# Altium footprint library CONN-DDR4-SODIMM.PcbLib: 1 footprints
Each footprint in its own frame and in the unit in brackets; x right, y up, seen from the top. Pads: shape width x height; smd on the part's side, far side on the other; paste and mask are expansions set on the pad; w line width, h text height; cw(c..) or ccw(c..) is an arc to the next point about the centre after c.
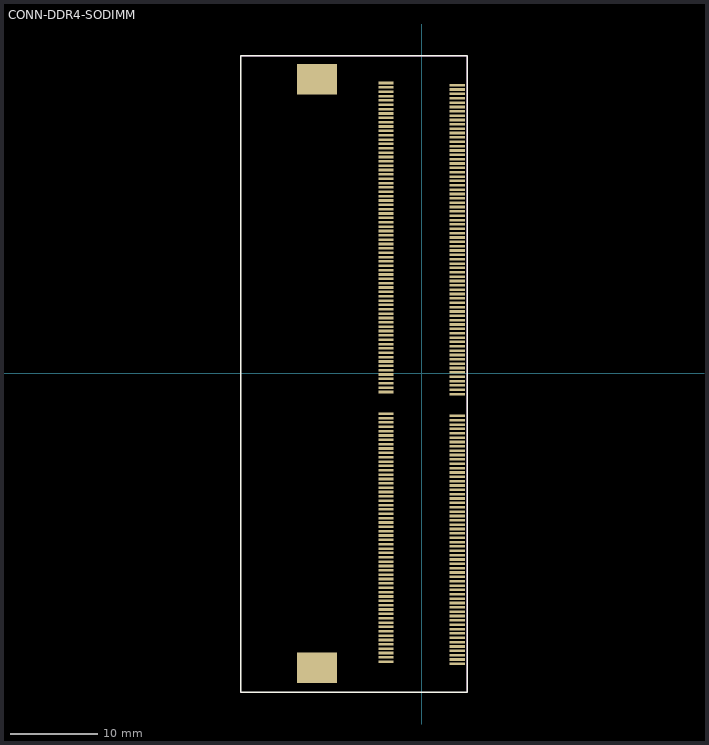
[diagram p0: the footprint, top view; thin cyan lines are the x and y axes]

## CONN-DDR4-SODIMM [mm]
height 0.9
pads (262):
  rect 1.75x0.3 smd: 1(-4.1,33.375) 2(4.1,33.125) 3(-4.1,32.875) 4(4.1,32.625) 5(-4.1,32.375) 6(4.1,32.125) 7(-4.1,31.875) 8(4.1,31.625) 9(-4.1,31.375) 10(4.1,31.125) 11(-4.1,30.875) 12(4.1,30.625) 13(-4.1,30.375) 14(4.1,30.125) 15(-4.1,29.875) 16(4.1,29.625) 17(-4.1,29.375) 18(4.1,29.125) 19(-4.1,28.875) 20(4.1,28.625) 21(-4.1,28.375) 22(4.1,28.125) 23(-4.1,27.875) 24(4.1,27.625) 25(-4.1,27.375) 26(4.1,27.125) 27(-4.1,26.875) 28(4.1,26.625) 29(-4.1,26.375) 30(4.1,26.125) 31(-4.1,25.875) 32(4.1,25.625) 33(-4.1,25.375) 34(4.1,25.125) 35(-4.1,24.875) 36(4.1,24.625) 37(-4.1,24.375) 38(4.1,24.125) 39(-4.1,23.875) 40(4.1,23.625) 41(-4.1,23.375) 42(4.1,23.125) 43(-4.1,22.875) 44(4.1,22.625) 45(-4.1,22.375) 46(4.1,22.125) 47(-4.1,21.875) 48(4.1,21.625) 49(-4.1,21.375) 50(4.1,21.125) 51(-4.1,20.875) 52(4.1,20.625) 53(-4.1,20.375) 54(4.1,20.125) 55(-4.1,19.875) 56(4.1,19.625) 57(-4.1,19.375) 58(4.1,19.125) 59(-4.1,18.875) 60(4.1,18.625) 61(-4.1,18.375) 62(4.1,18.125) 63(-4.1,17.875) 64(4.1,17.625) 65(-4.1,17.375) 66(4.1,17.125) 67(-4.1,16.875) 68(4.1,16.625) 69(-4.1,16.375) 70(4.1,16.125) 71(-4.1,15.875) 72(4.1,15.625) 73(-4.1,15.375) 74(4.1,15.125) 75(-4.1,14.875) 76(4.1,14.625) 77(-4.1,14.375) 78(4.1,14.125) 79(-4.1,13.875) 80(4.1,13.625) 81(-4.1,13.375) 82(4.1,13.125) 83(-4.1,12.875) 84(4.1,12.625) 85(-4.1,12.375) 86(4.1,12.125) 87(-4.1,11.875) 88(4.1,11.625) 89(-4.1,11.375) 90(4.1,11.125) 91(-4.1,10.875) 92(4.1,10.625) 93(-4.1,10.375) 94(4.1,10.125) 95(-4.1,9.875) 96(4.1,9.625) 97(-4.1,9.375) 98(4.1,9.125) 99(-4.1,8.875) 100(4.1,8.625) 101(-4.1,8.375) 102(4.1,8.125) 103(-4.1,7.875) 104(4.1,7.625) 105(-4.1,7.375) 106(4.1,7.125) 107(-4.1,6.875) 108(4.1,6.625) 109(-4.1,6.375) 110(4.1,6.125) 111(-4.1,5.875) 112(4.1,5.625) 113(-4.1,5.375) 114(4.1,5.125) 115(-4.1,4.875) 116(4.1,4.625) 117(-4.1,4.375) 118(4.1,4.125) 119(-4.1,3.875) 120(4.1,3.625) 121(-4.1,3.375) 122(4.1,3.125) 123(-4.1,2.875) 124(4.1,2.625) 125(-4.1,2.375) 126(4.1,2.125) 127(-4.1,1.875) 128(4.1,1.625) 129(-4.1,1.375) 130(4.1,1.125) 131(-4.1,0.875) 132(4.1,0.625) 133(-4.1,0.375) 134(4.1,0.125) 135(-4.1,-0.125) 136(4.1,-0.375) 137(-4.1,-0.625) 138(4.1,-0.875) 139(-4.1,-1.125) 140(4.1,-1.375) 141(-4.1,-1.625) 142(4.1,-1.875) 143(-4.1,-2.125) 144(4.1,-2.375) 145(-4.1,-4.625) 146(4.1,-4.875) 147(-4.1,-5.125) 148(4.1,-5.375) 149(-4.1,-5.625) 150(4.1,-5.875) 151(-4.1,-6.125) 152(4.1,-6.375) 153(-4.1,-6.625) 154(4.1,-6.875) 155(-4.1,-7.125) 156(4.1,-7.375) 157(-4.1,-7.625) 158(4.1,-7.875) 159(-4.1,-8.125) 160(4.1,-8.375) 161(-4.1,-8.625) 162(4.1,-8.875) 163(-4.1,-9.125) 164(4.1,-9.375) 165(-4.1,-9.625) 166(4.1,-9.875) 167(-4.1,-10.125) 168(4.1,-10.375) 169(-4.1,-10.625) 170(4.1,-10.875) 171(-4.1,-11.125) 172(4.1,-11.375) 173(-4.1,-11.625) 174(4.1,-11.875) 175(-4.1,-12.125) 176(4.1,-12.375) 177(-4.1,-12.625) 178(4.1,-12.875) 179(-4.1,-13.125) 180(4.1,-13.375) 181(-4.1,-13.625) 182(4.1,-13.875) 183(-4.1,-14.125) 184(4.1,-14.375) 185(-4.1,-14.625) 186(4.1,-14.875) 187(-4.1,-15.125) 188(4.1,-15.375) 189(-4.1,-15.625) 190(4.1,-15.875) 191(-4.1,-16.125) 192(4.1,-16.375) 193(-4.1,-16.625) 194(4.1,-16.875) 195(-4.1,-17.125) 196(4.1,-17.375) 197(-4.1,-17.625) 198(4.1,-17.875) 199(-4.1,-18.125) 200(4.1,-18.375) 201(-4.1,-18.625) 202(4.1,-18.875) 203(-4.1,-19.125) 204(4.1,-19.375) 205(-4.1,-19.625) 206(4.1,-19.875) 207(-4.1,-20.125) 208(4.1,-20.375) 209(-4.1,-20.625) 210(4.1,-20.875) 211(-4.1,-21.125) 212(4.1,-21.375) 213(-4.1,-21.625) 214(4.1,-21.875) 215(-4.1,-22.125) 216(4.1,-22.375) 217(-4.1,-22.625) 218(4.1,-22.875) 219(-4.1,-23.125) 220(4.1,-23.375) 221(-4.1,-23.625) 222(4.1,-23.875) 223(-4.1,-24.125) 224(4.1,-24.375) 225(-4.1,-24.625) 226(4.1,-24.875) 227(-4.1,-25.125) 228(4.1,-25.375) 229(-4.1,-25.625) 230(4.1,-25.875) 231(-4.1,-26.125) 232(4.1,-26.375) 233(-4.1,-26.625) 234(4.1,-26.875) 235(-4.1,-27.125) 236(4.1,-27.375) 237(-4.1,-27.625) 238(4.1,-27.875) 239(-4.1,-28.125) 240(4.1,-28.375) 241(-4.1,-28.625) 242(4.1,-28.875) 243(-4.1,-29.125) 244(4.1,-29.375) 245(-4.1,-29.625) 246(4.1,-29.875) 247(-4.1,-30.125) 248(4.1,-30.375) 249(-4.1,-30.625) 250(4.1,-30.875) 251(-4.1,-31.125) 252(4.1,-31.375) 253(-4.1,-31.625) 254(4.1,-31.875) 255(-4.1,-32.125) 256(4.1,-32.375) 257(-4.1,-32.625) 258(4.1,-32.875) 259(-4.1,-33.125) 260(4.1,-33.375)
  rect 4.6x3.5 smd: ""(-12,-33.8) ""(-12,33.8)
Top Overlay:
  lines w0.2: -20.775,-36.625 5.25,-36.625 5.25,36.5 -20.775,36.5 -20.775,-36.625
Top Assembly:
  lines w0.1: -20.775,-36.625 5.25,-36.625 5.25,36.5 -20.775,36.5 -20.775,-36.625
  text "'.Designator'" at -8.175,27.55 h0.7
3D body "2309408-2.stp": height 3.95, standoff -0.55, extent -20.775,-36.5 5.075,36.5